# Altium integrated library Linear Technology Power Management Switching Regulator LT1074-LT8705.IntLib: 2252 symbols (part 135 of 148)
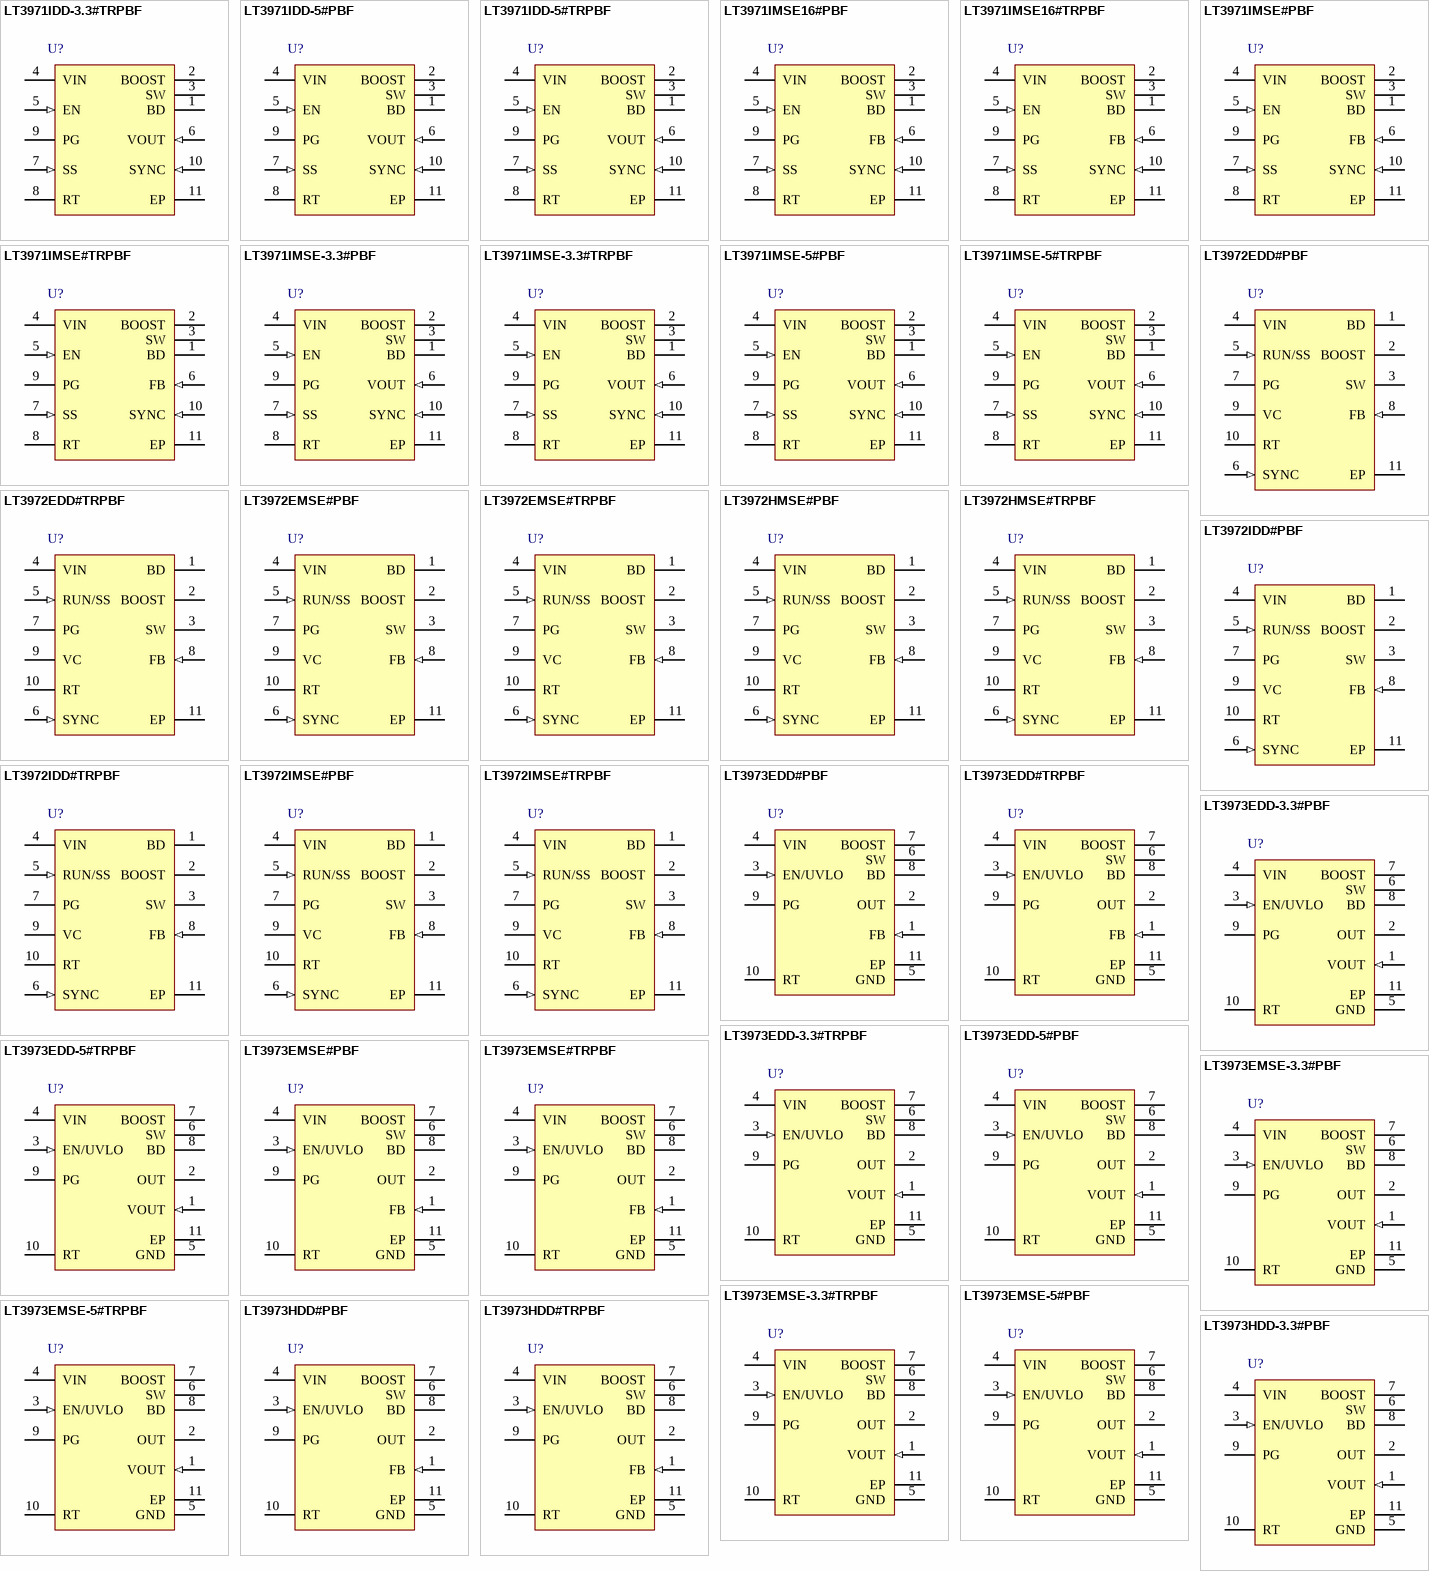
[diagram p205: symbols LT3971IDD-3.3#TRPBF to LT3973HDD-3.3#PBF]

## LT3973HDD-3.3#PBF
designator U?
750 mA Step-Down Regulator with 2.5 uA Quiescent Current and Integrated Diodes, 10-pin SON (DD-10), -40 to 150 degC, Pb-Free; Manufacturer: Linear Technology; PartNumber: LT3973HDD-3.3#PBF; Frequency Adjust Range: 200kHz - 2.2MHz; Number of Outputs: 1; DatasheetVersion: Rev. A; PackageVersion: Rev. C, 06/2010; PackageReference: DD-10; PackageDescription: 10-Pin Plastic DFN, Body 3 x 3 mm, Pitch 0.5 mm; Supplier 1: Digi-Key; Supplier Part Number 1: LT3973HDD-3.3#PBF-ND; Supplier 2: Newark; Supplier Part Number 2: 94T2273; RoHS: TRUE; Mounting Technology: Surface Mount; Code_JEDEC: MO-229; ComponentLink1Description: Manufacturer URL; ComponentLink1URL: http://www.linear.com/; ComponentLink2Description: Datasheet; ComponentLink2URL: http://cds.linear.com/docs/en/datasheet/3973fa.pdf; ComponentLink3Description: Package Specification; ComponentLink3URL: http://cds.linear.com/docs/en/packaging/DFN_10_05-08-1699.pdf
footprint LT-DD-10_V (SON, 10-Leads, Body 3x3mm, Pitch 0.5mm, Thermal Pad 2.38x1.65mm)
pins: 1 VOUT (in) "The  LT3973-3.3 and LT3973-5 regulate the VOUT pin to 3.3V  and 5V, respectively. This pin connects to the internal feedback divider that programs the fixed output voltage.", 2 OUT (power) "The LT3973 regulates the VIN to VOUT voltage for dropout conditions. It will also pull current from this pin to charge the boost capacitor when needed. Connect this pin to the output. If programmed output is greater than (See Datasheet)", 3 EN/UVLO (in) "The part is in shutdown when this pin is low and active when this pin is high. The threshold voltage is 1.19V going up with 30mV of hysteresis. Tie to VIN if shutdown feature is not used. The EN/UVLO threshold is accurate (See Datasheet)", 4 VIN (power) "The VIN pin supplies current to the LT3973's  internal circuitry and to the internal power switch. This pin must be locally bypassed.", 5 GND (power) "Ground. The exposed pad must be soldered to the PCB.", 6 SW (power) "The SW pin is the output of an internal power switch. Connect this pin to the inductor.", 7 BOOST "This pin is used to provide a drive voltage, higher than the input voltage, to the internal bipolar NPN power switch.", 8 BD (power) "This pin connects to the anode of the boost diode. This pin also supplies current to the LT3973's internal  regulator when BD is above 3.2V.", 9 PG (oc) "The PG pin is the open-drain output of an internal comparator. PG remains low until the FB pin is within 10% of the final regulation voltage. PG is valid when VIN is above 4.2V and EN/UVLO is high.", 10 RT "A resistor is tied between RT and ground to set the switching frequency.", 11 EP (power) "Ground. The exposed pad must be soldered to the PCB."

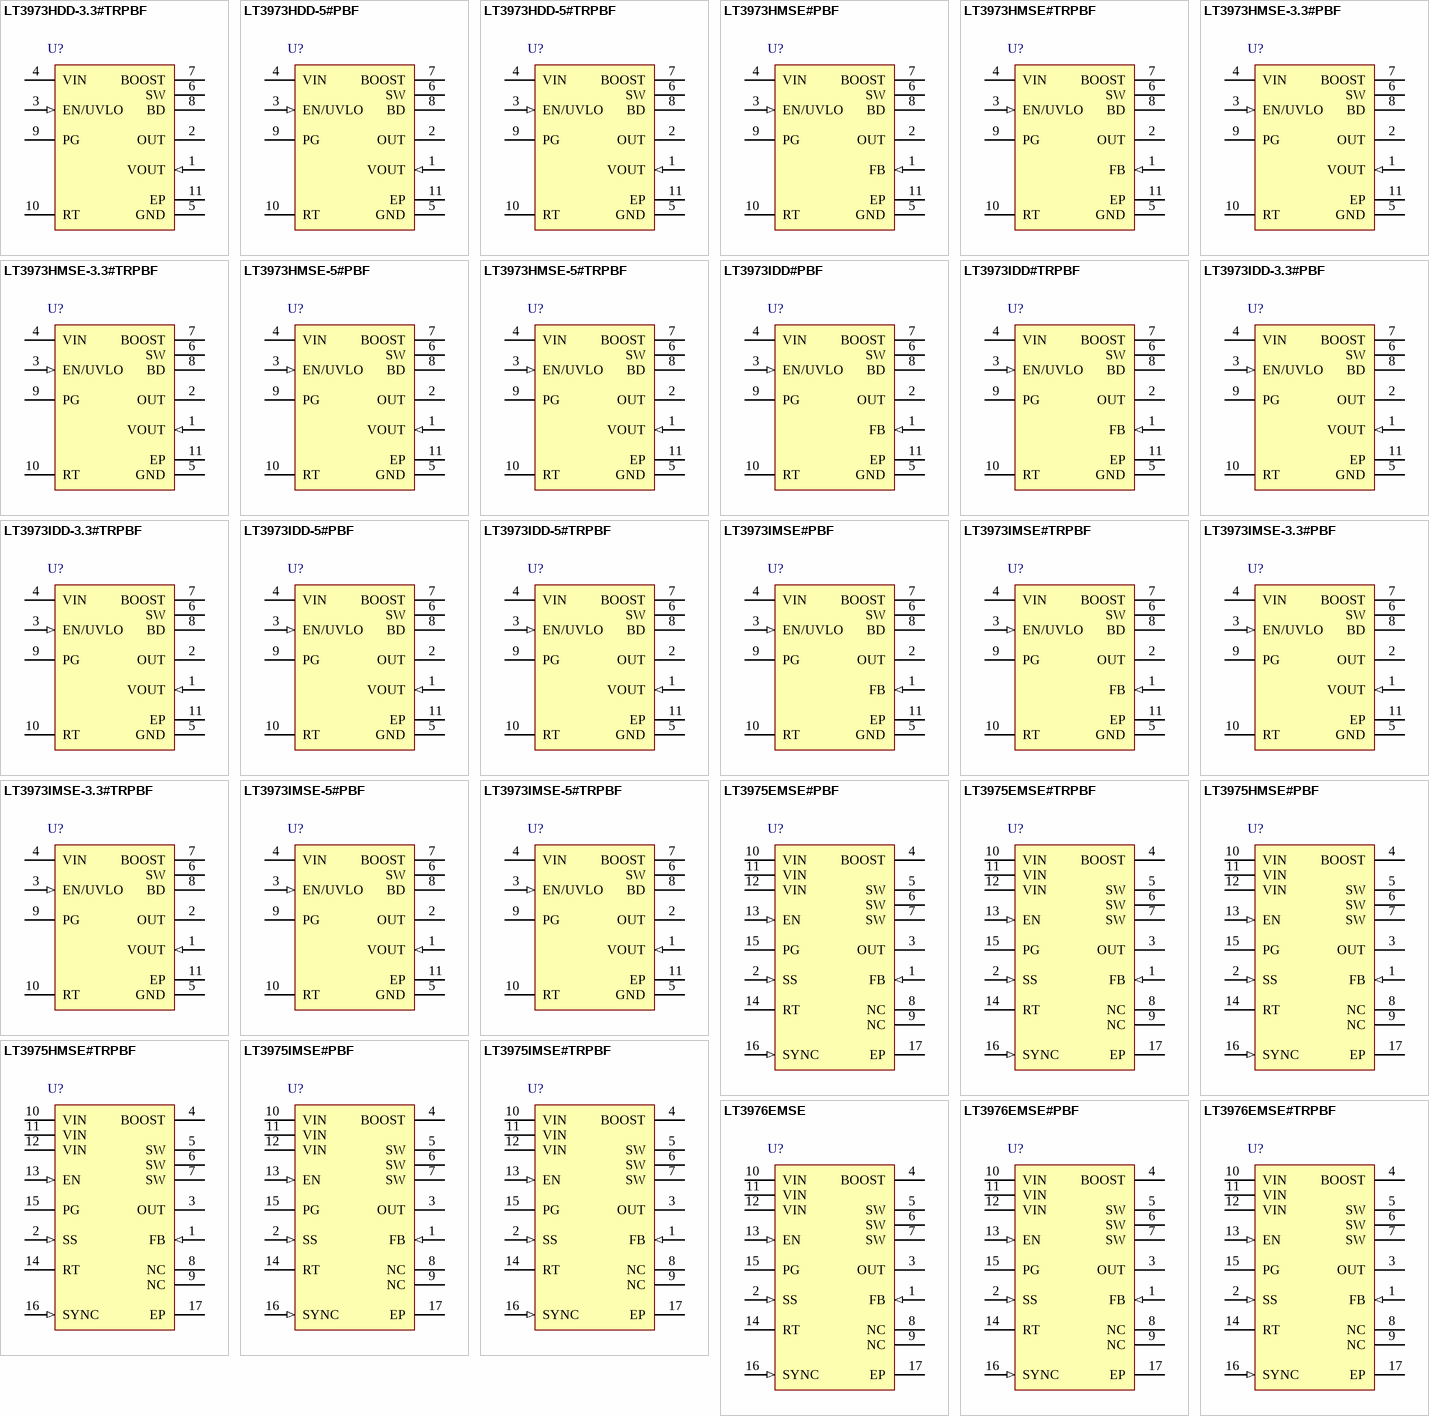
[diagram p65: symbols LT3973HDD-3.3#TRPBF to LT3976EMSE#TRPBF]

## LT3973HDD-3.3#TRPBF
designator U?
750 mA Step-Down Regulator with 2.5 uA Quiescent Current and Integrated Diodes, 10-pin SON (DD-10), -40 to 150 degC, Pb-Free, Tape and Reel; Manufacturer: Linear Technology; PartNumber: LT3973HDD-3.3#TRPBF; Frequency Adjust Range: 200kHz - 2.2MHz; Number of Outputs: 1; DatasheetVersion: Rev. A; PackageVersion: Rev. C, 06/2010; PackageReference: DD-10; PackageDescription: 10-Pin Plastic DFN, Body 3 x 3 mm, Pitch 0.5 mm; Supplier 1: Digi-Key; Supplier Part Number 1: LT3973HDD-3.3#TRPBF-ND; Packing: Tape and Reel; RoHS: TRUE; Mounting Technology: Surface Mount; Code_JEDEC: MO-229; ComponentLink1Description: Manufacturer URL; ComponentLink1URL: http://www.linear.com/; ComponentLink2Description: Datasheet; ComponentLink2URL: http://cds.linear.com/docs/en/datasheet/3973fa.pdf; ComponentLink3Description: Package Specification; ComponentLink3URL: http://cds.linear.com/docs/en/packaging/DFN_10_05-08-1699.pdf
footprint LT-DD-10_V (SON, 10-Leads, Body 3x3mm, Pitch 0.5mm, Thermal Pad 2.38x1.65mm)
pins: 1 VOUT (in) "The  LT3973-3.3 and LT3973-5 regulate the VOUT pin to 3.3V  and 5V, respectively. This pin connects to the internal feedback divider that programs the fixed output voltage.", 2 OUT (power) "The LT3973 regulates the VIN to VOUT voltage for dropout conditions. It will also pull current from this pin to charge the boost capacitor when needed. Connect this pin to the output. If programmed output is greater than (See Datasheet)", 3 EN/UVLO (in) "The part is in shutdown when this pin is low and active when this pin is high. The threshold voltage is 1.19V going up with 30mV of hysteresis. Tie to VIN if shutdown feature is not used. The EN/UVLO threshold is accurate (See Datasheet)", 4 VIN (power) "The VIN pin supplies current to the LT3973's  internal circuitry and to the internal power switch. This pin must be locally bypassed.", 5 GND (power) "Ground. The exposed pad must be soldered to the PCB.", 6 SW (power) "The SW pin is the output of an internal power switch. Connect this pin to the inductor.", 7 BOOST "This pin is used to provide a drive voltage, higher than the input voltage, to the internal bipolar NPN power switch.", 8 BD (power) "This pin connects to the anode of the boost diode. This pin also supplies current to the LT3973's internal  regulator when BD is above 3.2V.", 9 PG (oc) "The PG pin is the open-drain output of an internal comparator. PG remains low until the FB pin is within 10% of the final regulation voltage. PG is valid when VIN is above 4.2V and EN/UVLO is high.", 10 RT "A resistor is tied between RT and ground to set the switching frequency.", 11 EP (power) "Ground. The exposed pad must be soldered to the PCB."

## LT3973HDD-5#PBF
designator U?
750 mA Step-Down Regulator with 2.5 uA Quiescent Current and Integrated Diodes, 10-pin SON (DD-10), -40 to 150 degC, Pb-Free; Manufacturer: Linear Technology; PartNumber: LT3973HDD-5#PBF; Frequency Adjust Range: 200kHz - 2.2MHz; Number of Outputs: 1; DatasheetVersion: Rev. A; PackageVersion: Rev. C, 06/2010; PackageReference: DD-10; PackageDescription: 10-Pin Plastic DFN, Body 3 x 3 mm, Pitch 0.5 mm; Supplier 1: Digi-Key; Supplier Part Number 1: LT3973HDD-5#PBF-ND; Supplier 2: Newark; Supplier Part Number 2: 94T2275; RoHS: TRUE; Mounting Technology: Surface Mount; Code_JEDEC: MO-229; ComponentLink1Description: Manufacturer URL; ComponentLink1URL: http://www.linear.com/; ComponentLink2Description: Datasheet; ComponentLink2URL: http://cds.linear.com/docs/en/datasheet/3973fa.pdf; ComponentLink3Description: Package Specification; ComponentLink3URL: http://cds.linear.com/docs/en/packaging/DFN_10_05-08-1699.pdf
footprint LT-DD-10_V (SON, 10-Leads, Body 3x3mm, Pitch 0.5mm, Thermal Pad 2.38x1.65mm)
pins: 1 VOUT (in) "The  LT3973-3.3 and LT3973-5 regulate the VOUT pin to 3.3V  and 5V, respectively. This pin connects to the internal feedback divider that programs the fixed output voltage.", 2 OUT (power) "The LT3973 regulates the VIN to VOUT voltage for dropout conditions. It will also pull current from this pin to charge the boost capacitor when needed. Connect this pin to the output. If programmed output is greater than (See Datasheet)", 3 EN/UVLO (in) "The part is in shutdown when this pin is low and active when this pin is high. The threshold voltage is 1.19V going up with 30mV of hysteresis. Tie to VIN if shutdown feature is not used. The EN/UVLO threshold is accurate (See Datasheet)", 4 VIN (power) "The VIN pin supplies current to the LT3973's  internal circuitry and to the internal power switch. This pin must be locally bypassed.", 5 GND (power) "Ground. The exposed pad must be soldered to the PCB.", 6 SW (power) "The SW pin is the output of an internal power switch. Connect this pin to the inductor.", 7 BOOST "This pin is used to provide a drive voltage, higher than the input voltage, to the internal bipolar NPN power switch.", 8 BD (power) "This pin connects to the anode of the boost diode. This pin also supplies current to the LT3973's internal  regulator when BD is above 3.2V.", 9 PG (oc) "The PG pin is the open-drain output of an internal comparator. PG remains low until the FB pin is within 10% of the final regulation voltage. PG is valid when VIN is above 4.2V and EN/UVLO is high.", 10 RT "A resistor is tied between RT and ground to set the switching frequency.", 11 EP (power) "Ground. The exposed pad must be soldered to the PCB."

## LT3973HDD-5#TRPBF
designator U?
750 mA Step-Down Regulator with 2.5 uA Quiescent Current and Integrated Diodes, 10-pin SON (DD-10), -40 to 150 degC, Pb-Free, Tape and Reel; Manufacturer: Linear Technology; PartNumber: LT3973HDD-5#TRPBF; Frequency Adjust Range: 200kHz - 2.2MHz; Number of Outputs: 1; DatasheetVersion: Rev. A; PackageVersion: Rev. C, 06/2010; PackageReference: DD-10; PackageDescription: 10-Pin Plastic DFN, Body 3 x 3 mm, Pitch 0.5 mm; Supplier 1: Digi-Key; Supplier Part Number 1: LT3973HDD-5#TRPBF-ND; Packing: Tape and Reel; RoHS: TRUE; Mounting Technology: Surface Mount; Code_JEDEC: MO-229; ComponentLink1Description: Manufacturer URL; ComponentLink1URL: http://www.linear.com/; ComponentLink2Description: Datasheet; ComponentLink2URL: http://cds.linear.com/docs/en/datasheet/3973fa.pdf; ComponentLink3Description: Package Specification; ComponentLink3URL: http://cds.linear.com/docs/en/packaging/DFN_10_05-08-1699.pdf
footprint LT-DD-10_V (SON, 10-Leads, Body 3x3mm, Pitch 0.5mm, Thermal Pad 2.38x1.65mm)
pins: 1 VOUT (in) "The  LT3973-3.3 and LT3973-5 regulate the VOUT pin to 3.3V  and 5V, respectively. This pin connects to the internal feedback divider that programs the fixed output voltage.", 2 OUT (power) "The LT3973 regulates the VIN to VOUT voltage for dropout conditions. It will also pull current from this pin to charge the boost capacitor when needed. Connect this pin to the output. If programmed output is greater than (See Datasheet)", 3 EN/UVLO (in) "The part is in shutdown when this pin is low and active when this pin is high. The threshold voltage is 1.19V going up with 30mV of hysteresis. Tie to VIN if shutdown feature is not used. The EN/UVLO threshold is accurate (See Datasheet)", 4 VIN (power) "The VIN pin supplies current to the LT3973's  internal circuitry and to the internal power switch. This pin must be locally bypassed.", 5 GND (power) "Ground. The exposed pad must be soldered to the PCB.", 6 SW (power) "The SW pin is the output of an internal power switch. Connect this pin to the inductor.", 7 BOOST "This pin is used to provide a drive voltage, higher than the input voltage, to the internal bipolar NPN power switch.", 8 BD (power) "This pin connects to the anode of the boost diode. This pin also supplies current to the LT3973's internal  regulator when BD is above 3.2V.", 9 PG (oc) "The PG pin is the open-drain output of an internal comparator. PG remains low until the FB pin is within 10% of the final regulation voltage. PG is valid when VIN is above 4.2V and EN/UVLO is high.", 10 RT "A resistor is tied between RT and ground to set the switching frequency.", 11 EP (power) "Ground. The exposed pad must be soldered to the PCB."

## LT3973HMSE#PBF
designator U?
750 mA Step-Down Regulator with 2.5 uA Quiescent Current and Integrated Diodes, 10-pin SOP (MSE-10-EDP), -40 to 150 degC, Pb-Free; Manufacturer: Linear Technology; PartNumber: LT3973HMSE#PBF; Frequency Adjust Range: 200kHz - 2.2MHz; Number of Outputs: 1; DatasheetVersion: Rev. A; PackageVersion: Rev. I, 05/2013; PackageReference: MSE-10; PackageDescription: 10-Pin Plastic MSOP, Exposed Die Pad, Body 3 x 3 mm, Pitch 0.5 mm; Supplier 1: Digi-Key; Supplier Part Number 1: LT3973HMSE#PBF-ND; Supplier 2: Newark; Supplier Part Number 2: 78T4081; RoHS: TRUE; Mounting Technology: Surface Mount; ComponentLink1Description: Manufacturer URL; ComponentLink1URL: http://www.linear.com/; ComponentLink2Description: Datasheet; ComponentLink2URL: http://cds.linear.com/docs/en/datasheet/3973fa.pdf; ComponentLink3Description: Package Specification; ComponentLink3URL: http://cds.linear.com/docs/en/packaging/05081664_I_MSE.pdf
footprint LT-MSE-10-EDP_N (SOP, 10-Leads, Body 3.1x3.1mm, Pitch 0.5mm, Thermal Pad 1.88x1.68mm, IPC Medium Density)
footprint LT-MSE-10-EDP_L (SOP, 10-Leads, Body 3.1x3.1mm, Pitch 0.5mm, Thermal Pad 1.88x1.68mm, IPC High Density)
footprint LT-MSE-10-EDP_M (SOP, 10-Leads, Body 3.1x3.1mm, Pitch 0.5mm, Thermal Pad 1.88x1.68mm, IPC Low Density)
pins: 1 FB (in) "The LT3973 regulates the FB  pin to 1.21V. Connect the feedback resistor divider tap  to this pin.", 2 OUT (power) "The LT3973 regulates the VIN to VOUT voltage for dropout conditions. It will also pull current from this pin to charge the boost capacitor when needed. Connect this pin to the output. If programmed output is greater than (See Datasheet)", 3 EN/UVLO (in) "The part is in shutdown when this pin is low and active when this pin is high. The threshold voltage is 1.19V going up with 30mV of hysteresis. Tie to VIN if shutdown feature is not used. The EN/UVLO threshold is accurate (See Datasheet)", 4 VIN (power) "The VIN pin supplies current to the LT3973's  internal circuitry and to the internal power switch. This pin must be locally bypassed.", 5 GND (power) "Ground. The exposed pad must be soldered to the PCB.", 6 SW (power) "The SW pin is the output of an internal power switch. Connect this pin to the inductor.", 7 BOOST "This pin is used to provide a drive voltage, higher than the input voltage, to the internal bipolar NPN power switch.", 8 BD (power) "This pin connects to the anode of the boost diode. This pin also supplies current to the LT3973's internal  regulator when BD is above 3.2V.", 9 PG (oc) "The PG pin is the open-drain output of an internal comparator. PG remains low until the FB pin is within 10% of the final regulation voltage. PG is valid when VIN is above 4.2V and EN/UVLO is high.", 10 RT "A resistor is tied between RT and ground to set the switching frequency.", 11 EP (power) "Ground. The exposed pad must be soldered to the PCB."

## LT3973HMSE#TRPBF
designator U?
750 mA Step-Down Regulator with 2.5 uA Quiescent Current and Integrated Diodes, 10-pin SOP (MSE-10-EDP), -40 to 150 degC, Pb-Free, Tape and Reel; Manufacturer: Linear Technology; PartNumber: LT3973HMSE#TRPBF; Frequency Adjust Range: 200kHz - 2.2MHz; Number of Outputs: 1; DatasheetVersion: Rev. A; PackageVersion: Rev. I, 05/2013; PackageReference: MSE-10; PackageDescription: 10-Pin Plastic MSOP, Exposed Die Pad, Body 3 x 3 mm, Pitch 0.5 mm; Supplier 1: Digi-Key; Supplier Part Number 1: LT3973HMSE#TRPBF-ND; Packing: Tape and Reel; RoHS: TRUE; Mounting Technology: Surface Mount; ComponentLink1Description: Manufacturer URL; ComponentLink1URL: http://www.linear.com/; ComponentLink2Description: Datasheet; ComponentLink2URL: http://cds.linear.com/docs/en/datasheet/3973fa.pdf; ComponentLink3Description: Package Specification; ComponentLink3URL: http://cds.linear.com/docs/en/packaging/05081664_I_MSE.pdf
footprint LT-MSE-10-EDP_N (SOP, 10-Leads, Body 3.1x3.1mm, Pitch 0.5mm, Thermal Pad 1.88x1.68mm, IPC Medium Density)
footprint LT-MSE-10-EDP_L (SOP, 10-Leads, Body 3.1x3.1mm, Pitch 0.5mm, Thermal Pad 1.88x1.68mm, IPC High Density)
footprint LT-MSE-10-EDP_M (SOP, 10-Leads, Body 3.1x3.1mm, Pitch 0.5mm, Thermal Pad 1.88x1.68mm, IPC Low Density)
pins: 1 FB (in) "The LT3973 regulates the FB  pin to 1.21V. Connect the feedback resistor divider tap  to this pin.", 2 OUT (power) "The LT3973 regulates the VIN to VOUT voltage for dropout conditions. It will also pull current from this pin to charge the boost capacitor when needed. Connect this pin to the output. If programmed output is greater than (See Datasheet)", 3 EN/UVLO (in) "The part is in shutdown when this pin is low and active when this pin is high. The threshold voltage is 1.19V going up with 30mV of hysteresis. Tie to VIN if shutdown feature is not used. The EN/UVLO threshold is accurate (See Datasheet)", 4 VIN (power) "The VIN pin supplies current to the LT3973's  internal circuitry and to the internal power switch. This pin must be locally bypassed.", 5 GND (power) "Ground. The exposed pad must be soldered to the PCB.", 6 SW (power) "The SW pin is the output of an internal power switch. Connect this pin to the inductor.", 7 BOOST "This pin is used to provide a drive voltage, higher than the input voltage, to the internal bipolar NPN power switch.", 8 BD (power) "This pin connects to the anode of the boost diode. This pin also supplies current to the LT3973's internal  regulator when BD is above 3.2V.", 9 PG (oc) "The PG pin is the open-drain output of an internal comparator. PG remains low until the FB pin is within 10% of the final regulation voltage. PG is valid when VIN is above 4.2V and EN/UVLO is high.", 10 RT "A resistor is tied between RT and ground to set the switching frequency.", 11 EP (power) "Ground. The exposed pad must be soldered to the PCB."

## LT3973HMSE-3.3#PBF
designator U?
750 mA Step-Down Regulator with 2.5 uA Quiescent Current and Integrated Diodes, 10-pin SOP (MSE-10-EDP), -40 to 150 degC, Pb-Free; Manufacturer: Linear Technology; PartNumber: LT3973HMSE-3.3#PBF; Frequency Adjust Range: 200kHz - 2.2MHz; Number of Outputs: 1; DatasheetVersion: Rev. A; PackageVersion: Rev. I, 05/2013; PackageReference: MSE-10; PackageDescription: 10-Pin Plastic MSOP, Exposed Die Pad, Body 3 x 3 mm, Pitch 0.5 mm; Supplier 1: Digi-Key; Supplier Part Number 1: LT3973HMSE-3.3#PBF-ND; RoHS: TRUE; Mounting Technology: Surface Mount; ComponentLink1Description: Manufacturer URL; ComponentLink1URL: http://www.linear.com/; ComponentLink2Description: Datasheet; ComponentLink2URL: http://cds.linear.com/docs/en/datasheet/3973fa.pdf; ComponentLink3Description: Package Specification; ComponentLink3URL: http://cds.linear.com/docs/en/packaging/05081664_I_MSE.pdf
footprint LT-MSE-10-EDP_N (SOP, 10-Leads, Body 3.1x3.1mm, Pitch 0.5mm, Thermal Pad 1.88x1.68mm, IPC Medium Density)
footprint LT-MSE-10-EDP_L (SOP, 10-Leads, Body 3.1x3.1mm, Pitch 0.5mm, Thermal Pad 1.88x1.68mm, IPC High Density)
footprint LT-MSE-10-EDP_M (SOP, 10-Leads, Body 3.1x3.1mm, Pitch 0.5mm, Thermal Pad 1.88x1.68mm, IPC Low Density)
pins: 1 VOUT (in) "The  LT3973-3.3 and LT3973-5 regulate the VOUT pin to 3.3V  and 5V, respectively. This pin connects to the internal feedback divider that programs the fixed output voltage.", 2 OUT (power) "The LT3973 regulates the VIN to VOUT voltage for dropout conditions. It will also pull current from this pin to charge the boost capacitor when needed. Connect this pin to the output. If programmed output is greater than (See Datasheet)", 3 EN/UVLO (in) "The part is in shutdown when this pin is low and active when this pin is high. The threshold voltage is 1.19V going up with 30mV of hysteresis. Tie to VIN if shutdown feature is not used. The EN/UVLO threshold is accurate (See Datasheet)", 4 VIN (power) "The VIN pin supplies current to the LT3973's  internal circuitry and to the internal power switch. This pin must be locally bypassed.", 5 GND (power) "Ground. The exposed pad must be soldered to the PCB.", 6 SW (power) "The SW pin is the output of an internal power switch. Connect this pin to the inductor.", 7 BOOST "This pin is used to provide a drive voltage, higher than the input voltage, to the internal bipolar NPN power switch.", 8 BD (power) "This pin connects to the anode of the boost diode. This pin also supplies current to the LT3973's internal  regulator when BD is above 3.2V.", 9 PG (oc) "The PG pin is the open-drain output of an internal comparator. PG remains low until the FB pin is within 10% of the final regulation voltage. PG is valid when VIN is above 4.2V and EN/UVLO is high.", 10 RT "A resistor is tied between RT and ground to set the switching frequency.", 11 EP (power) "Ground. The exposed pad must be soldered to the PCB."

## LT3973HMSE-3.3#TRPBF
designator U?
750 mA Step-Down Regulator with 2.5 uA Quiescent Current and Integrated Diodes, 10-pin SOP (MSE-10-EDP), -40 to 150 degC, Pb-Free, Tape and Reel; Manufacturer: Linear Technology; PartNumber: LT3973HMSE-3.3#TRPBF; Frequency Adjust Range: 200kHz - 2.2MHz; Number of Outputs: 1; DatasheetVersion: Rev. A; PackageVersion: Rev. I, 05/2013; PackageReference: MSE-10; PackageDescription: 10-Pin Plastic MSOP, Exposed Die Pad, Body 3 x 3 mm, Pitch 0.5 mm; Supplier 1: Digi-Key; Supplier Part Number 1: LT3973HMSE-3.3#TRPBF-ND; Packing: Tape and Reel; RoHS: TRUE; Mounting Technology: Surface Mount; ComponentLink1Description: Manufacturer URL; ComponentLink1URL: http://www.linear.com/; ComponentLink2Description: Datasheet; ComponentLink2URL: http://cds.linear.com/docs/en/datasheet/3973fa.pdf; ComponentLink3Description: Package Specification; ComponentLink3URL: http://cds.linear.com/docs/en/packaging/05081664_I_MSE.pdf
footprint LT-MSE-10-EDP_N (SOP, 10-Leads, Body 3.1x3.1mm, Pitch 0.5mm, Thermal Pad 1.88x1.68mm, IPC Medium Density)
footprint LT-MSE-10-EDP_L (SOP, 10-Leads, Body 3.1x3.1mm, Pitch 0.5mm, Thermal Pad 1.88x1.68mm, IPC High Density)
footprint LT-MSE-10-EDP_M (SOP, 10-Leads, Body 3.1x3.1mm, Pitch 0.5mm, Thermal Pad 1.88x1.68mm, IPC Low Density)
pins: 1 VOUT (in) "The  LT3973-3.3 and LT3973-5 regulate the VOUT pin to 3.3V  and 5V, respectively. This pin connects to the internal feedback divider that programs the fixed output voltage.", 2 OUT (power) "The LT3973 regulates the VIN to VOUT voltage for dropout conditions. It will also pull current from this pin to charge the boost capacitor when needed. Connect this pin to the output. If programmed output is greater than (See Datasheet)", 3 EN/UVLO (in) "The part is in shutdown when this pin is low and active when this pin is high. The threshold voltage is 1.19V going up with 30mV of hysteresis. Tie to VIN if shutdown feature is not used. The EN/UVLO threshold is accurate (See Datasheet)", 4 VIN (power) "The VIN pin supplies current to the LT3973's  internal circuitry and to the internal power switch. This pin must be locally bypassed.", 5 GND (power) "Ground. The exposed pad must be soldered to the PCB.", 6 SW (power) "The SW pin is the output of an internal power switch. Connect this pin to the inductor.", 7 BOOST "This pin is used to provide a drive voltage, higher than the input voltage, to the internal bipolar NPN power switch.", 8 BD (power) "This pin connects to the anode of the boost diode. This pin also supplies current to the LT3973's internal  regulator when BD is above 3.2V.", 9 PG (oc) "The PG pin is the open-drain output of an internal comparator. PG remains low until the FB pin is within 10% of the final regulation voltage. PG is valid when VIN is above 4.2V and EN/UVLO is high.", 10 RT "A resistor is tied between RT and ground to set the switching frequency.", 11 EP (power) "Ground. The exposed pad must be soldered to the PCB."

## LT3973HMSE-5#PBF
designator U?
750 mA Step-Down Regulator with 2.5 uA Quiescent Current and Integrated Diodes, 10-pin SOP (MSE-10-EDP), -40 to 150 degC, Pb-Free; Manufacturer: Linear Technology; PartNumber: LT3973HMSE-5#PBF; Frequency Adjust Range: 200kHz - 2.2MHz; Number of Outputs: 1; DatasheetVersion: Rev. A; PackageVersion: Rev. I, 05/2013; PackageReference: MSE-10; PackageDescription: 10-Pin Plastic MSOP, Exposed Die Pad, Body 3 x 3 mm, Pitch 0.5 mm; Supplier 1: Digi-Key; Supplier Part Number 1: LT3973HMSE-5#PBF-ND; RoHS: TRUE; Mounting Technology: Surface Mount; ComponentLink1Description: Manufacturer URL; ComponentLink1URL: http://www.linear.com/; ComponentLink2Description: Datasheet; ComponentLink2URL: http://cds.linear.com/docs/en/datasheet/3973fa.pdf; ComponentLink3Description: Package Specification; ComponentLink3URL: http://cds.linear.com/docs/en/packaging/05081664_I_MSE.pdf
footprint LT-MSE-10-EDP_N (SOP, 10-Leads, Body 3.1x3.1mm, Pitch 0.5mm, Thermal Pad 1.88x1.68mm, IPC Medium Density)
footprint LT-MSE-10-EDP_L (SOP, 10-Leads, Body 3.1x3.1mm, Pitch 0.5mm, Thermal Pad 1.88x1.68mm, IPC High Density)
footprint LT-MSE-10-EDP_M (SOP, 10-Leads, Body 3.1x3.1mm, Pitch 0.5mm, Thermal Pad 1.88x1.68mm, IPC Low Density)
pins: 1 VOUT (in) "The  LT3973-3.3 and LT3973-5 regulate the VOUT pin to 3.3V  and 5V, respectively. This pin connects to the internal feedback divider that programs the fixed output voltage.", 2 OUT (power) "The LT3973 regulates the VIN to VOUT voltage for dropout conditions. It will also pull current from this pin to charge the boost capacitor when needed. Connect this pin to the output. If programmed output is greater than (See Datasheet)", 3 EN/UVLO (in) "The part is in shutdown when this pin is low and active when this pin is high. The threshold voltage is 1.19V going up with 30mV of hysteresis. Tie to VIN if shutdown feature is not used. The EN/UVLO threshold is accurate (See Datasheet)", 4 VIN (power) "The VIN pin supplies current to the LT3973's  internal circuitry and to the internal power switch. This pin must be locally bypassed.", 5 GND (power) "Ground. The exposed pad must be soldered to the PCB.", 6 SW (power) "The SW pin is the output of an internal power switch. Connect this pin to the inductor.", 7 BOOST "This pin is used to provide a drive voltage, higher than the input voltage, to the internal bipolar NPN power switch.", 8 BD (power) "This pin connects to the anode of the boost diode. This pin also supplies current to the LT3973's internal  regulator when BD is above 3.2V.", 9 PG (oc) "The PG pin is the open-drain output of an internal comparator. PG remains low until the FB pin is within 10% of the final regulation voltage. PG is valid when VIN is above 4.2V and EN/UVLO is high.", 10 RT "A resistor is tied between RT and ground to set the switching frequency.", 11 EP (power) "Ground. The exposed pad must be soldered to the PCB."

## LT3973HMSE-5#TRPBF
designator U?
750 mA Step-Down Regulator with 2.5 uA Quiescent Current and Integrated Diodes, 10-pin SOP (MSE-10-EDP), -40 to 150 degC, Pb-Free, Tape and Reel; Manufacturer: Linear Technology; PartNumber: LT3973HMSE-5#TRPBF; Frequency Adjust Range: 200kHz - 2.2MHz; Number of Outputs: 1; DatasheetVersion: Rev. A; PackageVersion: Rev. I, 05/2013; PackageReference: MSE-10; PackageDescription: 10-Pin Plastic MSOP, Exposed Die Pad, Body 3 x 3 mm, Pitch 0.5 mm; Supplier 1: Digi-Key; Supplier Part Number 1: LT3973HMSE-5#TRPBF-ND; Supplier 2: Newark; Supplier Part Number 2: 94T2280; Packing: Tape and Reel; RoHS: TRUE; Mounting Technology: Surface Mount; ComponentLink1Description: Manufacturer URL; ComponentLink1URL: http://www.linear.com/; ComponentLink2Description: Datasheet; ComponentLink2URL: http://cds.linear.com/docs/en/datasheet/3973fa.pdf; ComponentLink3Description: Package Specification; ComponentLink3URL: http://cds.linear.com/docs/en/packaging/05081664_I_MSE.pdf
footprint LT-MSE-10-EDP_N (SOP, 10-Leads, Body 3.1x3.1mm, Pitch 0.5mm, Thermal Pad 1.88x1.68mm, IPC Medium Density)
footprint LT-MSE-10-EDP_L (SOP, 10-Leads, Body 3.1x3.1mm, Pitch 0.5mm, Thermal Pad 1.88x1.68mm, IPC High Density)
footprint LT-MSE-10-EDP_M (SOP, 10-Leads, Body 3.1x3.1mm, Pitch 0.5mm, Thermal Pad 1.88x1.68mm, IPC Low Density)
pins: 1 VOUT (in) "The  LT3973-3.3 and LT3973-5 regulate the VOUT pin to 3.3V  and 5V, respectively. This pin connects to the internal feedback divider that programs the fixed output voltage.", 2 OUT (power) "The LT3973 regulates the VIN to VOUT voltage for dropout conditions. It will also pull current from this pin to charge the boost capacitor when needed. Connect this pin to the output. If programmed output is greater than (See Datasheet)", 3 EN/UVLO (in) "The part is in shutdown when this pin is low and active when this pin is high. The threshold voltage is 1.19V going up with 30mV of hysteresis. Tie to VIN if shutdown feature is not used. The EN/UVLO threshold is accurate (See Datasheet)", 4 VIN (power) "The VIN pin supplies current to the LT3973's  internal circuitry and to the internal power switch. This pin must be locally bypassed.", 5 GND (power) "Ground. The exposed pad must be soldered to the PCB.", 6 SW (power) "The SW pin is the output of an internal power switch. Connect this pin to the inductor.", 7 BOOST "This pin is used to provide a drive voltage, higher than the input voltage, to the internal bipolar NPN power switch.", 8 BD (power) "This pin connects to the anode of the boost diode. This pin also supplies current to the LT3973's internal  regulator when BD is above 3.2V.", 9 PG (oc) "The PG pin is the open-drain output of an internal comparator. PG remains low until the FB pin is within 10% of the final regulation voltage. PG is valid when VIN is above 4.2V and EN/UVLO is high.", 10 RT "A resistor is tied between RT and ground to set the switching frequency.", 11 EP (power) "Ground. The exposed pad must be soldered to the PCB."

## LT3973IDD#PBF
designator U?
750 mA Step-Down Regulator with 2.5 uA Quiescent Current and Integrated Diodes, 10-pin SON (DD-10), -40 to 125 degC, Pb-Free; Manufacturer: Linear Technology; PartNumber: LT3973IDD#PBF; Frequency Adjust Range: 200kHz - 2.2MHz; Number of Outputs: 1; DatasheetVersion: Rev. A; PackageVersion: Rev. C, 06/2010; PackageReference: DD-10; PackageDescription: 10-Pin Plastic DFN, Body 3 x 3 mm, Pitch 0.5 mm; Supplier 1: Digi-Key; Supplier Part Number 1: LT3973IDD#PBF-ND; Supplier 2: Newark; Supplier Part Number 2: 78T4083; RoHS: TRUE; Mounting Technology: Surface Mount; Code_JEDEC: MO-229; ComponentLink1Description: Manufacturer URL; ComponentLink1URL: http://www.linear.com/; ComponentLink2Description: Datasheet; ComponentLink2URL: http://cds.linear.com/docs/en/datasheet/3973fa.pdf; ComponentLink3Description: Package Specification; ComponentLink3URL: http://cds.linear.com/docs/en/packaging/DFN_10_05-08-1699.pdf
footprint LT-DD-10_V (SON, 10-Leads, Body 3x3mm, Pitch 0.5mm, Thermal Pad 2.38x1.65mm)
pins: 1 FB (in) "The LT3973 regulates the FB  pin to 1.21V. Connect the feedback resistor divider tap  to this pin.", 2 OUT (power) "The LT3973 regulates the VIN to VOUT voltage for dropout conditions. It will also pull current from this pin to charge the boost capacitor when needed. Connect this pin to the output. If programmed output is greater than (See Datasheet)", 3 EN/UVLO (in) "The part is in shutdown when this pin is low and active when this pin is high. The threshold voltage is 1.19V going up with 30mV of hysteresis. Tie to VIN if shutdown feature is not used. The EN/UVLO threshold is accurate (See Datasheet)", 4 VIN (power) "The VIN pin supplies current to the LT3973's  internal circuitry and to the internal power switch. This pin must be locally bypassed.", 5 GND (power) "Ground. The exposed pad must be soldered to the PCB.", 6 SW (power) "The SW pin is the output of an internal power switch. Connect this pin to the inductor.", 7 BOOST "This pin is used to provide a drive voltage, higher than the input voltage, to the internal bipolar NPN power switch.", 8 BD (power) "This pin connects to the anode of the boost diode. This pin also supplies current to the LT3973's internal  regulator when BD is above 3.2V.", 9 PG (oc) "The PG pin is the open-drain output of an internal comparator. PG remains low until the FB pin is within 10% of the final regulation voltage. PG is valid when VIN is above 4.2V and EN/UVLO is high.", 10 RT "A resistor is tied between RT and ground to set the switching frequency.", 11 EP (power) "Ground. The exposed pad must be soldered to the PCB."

## LT3973IDD#TRPBF
designator U?
750 mA Step-Down Regulator with 2.5 uA Quiescent Current and Integrated Diodes, 10-pin SON (DD-10), -40 to 125 degC, Pb-Free, Tape and Reel; Manufacturer: Linear Technology; PartNumber: LT3973IDD#TRPBF; Frequency Adjust Range: 200kHz - 2.2MHz; Number of Outputs: 1; DatasheetVersion: Rev. A; PackageVersion: Rev. C, 06/2010; PackageReference: DD-10; PackageDescription: 10-Pin Plastic DFN, Body 3 x 3 mm, Pitch 0.5 mm; Supplier 1: Digi-Key; Supplier Part Number 1: LT3973IDD#TRPBF-ND; Packing: Tape and Reel; RoHS: TRUE; Mounting Technology: Surface Mount; Code_JEDEC: MO-229; ComponentLink1Description: Manufacturer URL; ComponentLink1URL: http://www.linear.com/; ComponentLink2Description: Datasheet; ComponentLink2URL: http://cds.linear.com/docs/en/datasheet/3973fa.pdf; ComponentLink3Description: Package Specification; ComponentLink3URL: http://cds.linear.com/docs/en/packaging/DFN_10_05-08-1699.pdf
footprint LT-DD-10_V (SON, 10-Leads, Body 3x3mm, Pitch 0.5mm, Thermal Pad 2.38x1.65mm)
pins: 1 FB (in) "The LT3973 regulates the FB  pin to 1.21V. Connect the feedback resistor divider tap  to this pin.", 2 OUT (power) "The LT3973 regulates the VIN to VOUT voltage for dropout conditions. It will also pull current from this pin to charge the boost capacitor when needed. Connect this pin to the output. If programmed output is greater than (See Datasheet)", 3 EN/UVLO (in) "The part is in shutdown when this pin is low and active when this pin is high. The threshold voltage is 1.19V going up with 30mV of hysteresis. Tie to VIN if shutdown feature is not used. The EN/UVLO threshold is accurate (See Datasheet)", 4 VIN (power) "The VIN pin supplies current to the LT3973's  internal circuitry and to the internal power switch. This pin must be locally bypassed.", 5 GND (power) "Ground. The exposed pad must be soldered to the PCB.", 6 SW (power) "The SW pin is the output of an internal power switch. Connect this pin to the inductor.", 7 BOOST "This pin is used to provide a drive voltage, higher than the input voltage, to the internal bipolar NPN power switch.", 8 BD (power) "This pin connects to the anode of the boost diode. This pin also supplies current to the LT3973's internal  regulator when BD is above 3.2V.", 9 PG (oc) "The PG pin is the open-drain output of an internal comparator. PG remains low until the FB pin is within 10% of the final regulation voltage. PG is valid when VIN is above 4.2V and EN/UVLO is high.", 10 RT "A resistor is tied between RT and ground to set the switching frequency.", 11 EP (power) "Ground. The exposed pad must be soldered to the PCB."

## LT3973IDD-3.3#PBF
designator U?
750 mA Step-Down Regulator with 2.5 uA Quiescent Current and Integrated Diodes, 10-pin SON (DD-10), -40 to 125 degC, Pb-Free; Manufacturer: Linear Technology; PartNumber: LT3973IDD-3.3#PBF; Frequency Adjust Range: 200kHz - 2.2MHz; Number of Outputs: 1; DatasheetVersion: Rev. A; PackageVersion: Rev. C, 06/2010; PackageReference: DD-10; PackageDescription: 10-Pin Plastic DFN, Body 3 x 3 mm, Pitch 0.5 mm; Supplier 1: Digi-Key; Supplier Part Number 1: LT3973IDD-3.3#PBF-ND; Supplier 2: Farnell; Supplier Part Number 2: 2115833; RoHS: TRUE; Mounting Technology: Surface Mount; Code_JEDEC: MO-229; ComponentLink1Description: Manufacturer URL; ComponentLink1URL: http://www.linear.com/; ComponentLink2Description: Datasheet; ComponentLink2URL: http://cds.linear.com/docs/en/datasheet/3973fa.pdf; ComponentLink3Description: Package Specification; ComponentLink3URL: http://cds.linear.com/docs/en/packaging/DFN_10_05-08-1699.pdf
footprint LT-DD-10_V (SON, 10-Leads, Body 3x3mm, Pitch 0.5mm, Thermal Pad 2.38x1.65mm)
pins: 1 VOUT (in) "The  LT3973-3.3 and LT3973-5 regulate the VOUT pin to 3.3V  and 5V, respectively. This pin connects to the internal feedback divider that programs the fixed output voltage.", 2 OUT (power) "The LT3973 regulates the VIN to VOUT voltage for dropout conditions. It will also pull current from this pin to charge the boost capacitor when needed. Connect this pin to the output. If programmed output is greater than (See Datasheet)", 3 EN/UVLO (in) "The part is in shutdown when this pin is low and active when this pin is high. The threshold voltage is 1.19V going up with 30mV of hysteresis. Tie to VIN if shutdown feature is not used. The EN/UVLO threshold is accurate (See Datasheet)", 4 VIN (power) "The VIN pin supplies current to the LT3973's  internal circuitry and to the internal power switch. This pin must be locally bypassed.", 5 GND (power) "Ground. The exposed pad must be soldered to the PCB.", 6 SW (power) "The SW pin is the output of an internal power switch. Connect this pin to the inductor.", 7 BOOST "This pin is used to provide a drive voltage, higher than the input voltage, to the internal bipolar NPN power switch.", 8 BD (power) "This pin connects to the anode of the boost diode. This pin also supplies current to the LT3973's internal  regulator when BD is above 3.2V.", 9 PG (oc) "The PG pin is the open-drain output of an internal comparator. PG remains low until the FB pin is within 10% of the final regulation voltage. PG is valid when VIN is above 4.2V and EN/UVLO is high.", 10 RT "A resistor is tied between RT and ground to set the switching frequency.", 11 EP (power) "Ground. The exposed pad must be soldered to the PCB."

## LT3973IDD-3.3#TRPBF
designator U?
750 mA Step-Down Regulator with 2.5 uA Quiescent Current and Integrated Diodes, 10-pin SON (DD-10), -40 to 125 degC, Pb-Free, Tape and Reel; Manufacturer: Linear Technology; PartNumber: LT3973IDD-3.3#TRPBF; Frequency Adjust Range: 200kHz - 2.2MHz; Number of Outputs: 1; DatasheetVersion: Rev. A; PackageVersion: Rev. C, 06/2010; PackageReference: DD-10; PackageDescription: 10-Pin Plastic DFN, Body 3 x 3 mm, Pitch 0.5 mm; Supplier 1: Digi-Key; Supplier Part Number 1: LT3973IDD-3.3#TRPBF-ND; Packing: Tape and Reel; RoHS: TRUE; Mounting Technology: Surface Mount; Code_JEDEC: MO-229; ComponentLink1Description: Manufacturer URL; ComponentLink1URL: http://www.linear.com/; ComponentLink2Description: Datasheet; ComponentLink2URL: http://cds.linear.com/docs/en/datasheet/3973fa.pdf; ComponentLink3Description: Package Specification; ComponentLink3URL: http://cds.linear.com/docs/en/packaging/DFN_10_05-08-1699.pdf
footprint LT-DD-10_V (SON, 10-Leads, Body 3x3mm, Pitch 0.5mm, Thermal Pad 2.38x1.65mm)
pins: 1 VOUT (in) "The  LT3973-3.3 and LT3973-5 regulate the VOUT pin to 3.3V  and 5V, respectively. This pin connects to the internal feedback divider that programs the fixed output voltage.", 2 OUT (power) "The LT3973 regulates the VIN to VOUT voltage for dropout conditions. It will also pull current from this pin to charge the boost capacitor when needed. Connect this pin to the output. If programmed output is greater than (See Datasheet)", 3 EN/UVLO (in) "The part is in shutdown when this pin is low and active when this pin is high. The threshold voltage is 1.19V going up with 30mV of hysteresis. Tie to VIN if shutdown feature is not used. The EN/UVLO threshold is accurate (See Datasheet)", 4 VIN (power) "The VIN pin supplies current to the LT3973's  internal circuitry and to the internal power switch. This pin must be locally bypassed.", 5 GND (power) "Ground. The exposed pad must be soldered to the PCB.", 6 SW (power) "The SW pin is the output of an internal power switch. Connect this pin to the inductor.", 7 BOOST "This pin is used to provide a drive voltage, higher than the input voltage, to the internal bipolar NPN power switch.", 8 BD (power) "This pin connects to the anode of the boost diode. This pin also supplies current to the LT3973's internal  regulator when BD is above 3.2V.", 9 PG (oc) "The PG pin is the open-drain output of an internal comparator. PG remains low until the FB pin is within 10% of the final regulation voltage. PG is valid when VIN is above 4.2V and EN/UVLO is high.", 10 RT "A resistor is tied between RT and ground to set the switching frequency.", 11 EP (power) "Ground. The exposed pad must be soldered to the PCB."

## LT3973IDD-5#PBF
designator U?
750 mA Step-Down Regulator with 2.5 uA Quiescent Current and Integrated Diodes, 10-pin SON (DD-10), -40 to 125 degC, Pb-Free; Manufacturer: Linear Technology; PartNumber: LT3973IDD-5#PBF; Frequency Adjust Range: 200kHz - 2.2MHz; Number of Outputs: 1; DatasheetVersion: Rev. A; PackageVersion: Rev. C, 06/2010; PackageReference: DD-10; PackageDescription: 10-Pin Plastic DFN, Body 3 x 3 mm, Pitch 0.5 mm; Supplier 1: Digi-Key; Supplier Part Number 1: LT3973IDD-5#PBF-ND; Supplier 2: Farnell; Supplier Part Number 2: 2115834; RoHS: TRUE; Mounting Technology: Surface Mount; Code_JEDEC: MO-229; ComponentLink1Description: Manufacturer URL; ComponentLink1URL: http://www.linear.com/; ComponentLink2Description: Datasheet; ComponentLink2URL: http://cds.linear.com/docs/en/datasheet/3973fa.pdf; ComponentLink3Description: Package Specification; ComponentLink3URL: http://cds.linear.com/docs/en/packaging/DFN_10_05-08-1699.pdf
footprint LT-DD-10_V (SON, 10-Leads, Body 3x3mm, Pitch 0.5mm, Thermal Pad 2.38x1.65mm)
pins: 1 VOUT (in) "The  LT3973-3.3 and LT3973-5 regulate the VOUT pin to 3.3V  and 5V, respectively. This pin connects to the internal feedback divider that programs the fixed output voltage.", 2 OUT (power) "The LT3973 regulates the VIN to VOUT voltage for dropout conditions. It will also pull current from this pin to charge the boost capacitor when needed. Connect this pin to the output. If programmed output is greater than (See Datasheet)", 3 EN/UVLO (in) "The part is in shutdown when this pin is low and active when this pin is high. The threshold voltage is 1.19V going up with 30mV of hysteresis. Tie to VIN if shutdown feature is not used. The EN/UVLO threshold is accurate (See Datasheet)", 4 VIN (power) "The VIN pin supplies current to the LT3973's  internal circuitry and to the internal power switch. This pin must be locally bypassed.", 5 GND (power) "Ground. The exposed pad must be soldered to the PCB.", 6 SW (power) "The SW pin is the output of an internal power switch. Connect this pin to the inductor.", 7 BOOST "This pin is used to provide a drive voltage, higher than the input voltage, to the internal bipolar NPN power switch.", 8 BD (power) "This pin connects to the anode of the boost diode. This pin also supplies current to the LT3973's internal  regulator when BD is above 3.2V.", 9 PG (oc) "The PG pin is the open-drain output of an internal comparator. PG remains low until the FB pin is within 10% of the final regulation voltage. PG is valid when VIN is above 4.2V and EN/UVLO is high.", 10 RT "A resistor is tied between RT and ground to set the switching frequency.", 11 EP (power) "Ground. The exposed pad must be soldered to the PCB."

## LT3973IDD-5#TRPBF
designator U?
750 mA Step-Down Regulator with 2.5 uA Quiescent Current and Integrated Diodes, 10-pin SON (DD-10), -40 to 125 degC, Pb-Free, Tape and Reel; Manufacturer: Linear Technology; PartNumber: LT3973IDD-5#TRPBF; Frequency Adjust Range: 200kHz - 2.2MHz; Number of Outputs: 1; DatasheetVersion: Rev. A; PackageVersion: Rev. C, 06/2010; PackageReference: DD-10; PackageDescription: 10-Pin Plastic DFN, Body 3 x 3 mm, Pitch 0.5 mm; Supplier 1: Digi-Key; Supplier Part Number 1: LT3973IDD-5#TRPBF-ND; Packing: Tape and Reel; RoHS: TRUE; Mounting Technology: Surface Mount; Code_JEDEC: MO-229; ComponentLink1Description: Manufacturer URL; ComponentLink1URL: http://www.linear.com/; ComponentLink2Description: Datasheet; ComponentLink2URL: http://cds.linear.com/docs/en/datasheet/3973fa.pdf; ComponentLink3Description: Package Specification; ComponentLink3URL: http://cds.linear.com/docs/en/packaging/DFN_10_05-08-1699.pdf
footprint LT-DD-10_V (SON, 10-Leads, Body 3x3mm, Pitch 0.5mm, Thermal Pad 2.38x1.65mm)
pins: 1 VOUT (in) "The  LT3973-3.3 and LT3973-5 regulate the VOUT pin to 3.3V  and 5V, respectively. This pin connects to the internal feedback divider that programs the fixed output voltage.", 2 OUT (power) "The LT3973 regulates the VIN to VOUT voltage for dropout conditions. It will also pull current from this pin to charge the boost capacitor when needed. Connect this pin to the output. If programmed output is greater than (See Datasheet)", 3 EN/UVLO (in) "The part is in shutdown when this pin is low and active when this pin is high. The threshold voltage is 1.19V going up with 30mV of hysteresis. Tie to VIN if shutdown feature is not used. The EN/UVLO threshold is accurate (See Datasheet)", 4 VIN (power) "The VIN pin supplies current to the LT3973's  internal circuitry and to the internal power switch. This pin must be locally bypassed.", 5 GND (power) "Ground. The exposed pad must be soldered to the PCB.", 6 SW (power) "The SW pin is the output of an internal power switch. Connect this pin to the inductor.", 7 BOOST "This pin is used to provide a drive voltage, higher than the input voltage, to the internal bipolar NPN power switch.", 8 BD (power) "This pin connects to the anode of the boost diode. This pin also supplies current to the LT3973's internal  regulator when BD is above 3.2V.", 9 PG (oc) "The PG pin is the open-drain output of an internal comparator. PG remains low until the FB pin is within 10% of the final regulation voltage. PG is valid when VIN is above 4.2V and EN/UVLO is high.", 10 RT "A resistor is tied between RT and ground to set the switching frequency.", 11 EP (power) "Ground. The exposed pad must be soldered to the PCB."

## LT3973IMSE#PBF
designator U?
750 mA Step-Down Regulator with 2.5 uA Quiescent Current and Integrated Diodes, 10-pin SOP (MSE-10-EDP), -40 to 125 degC, Pb-Free; Manufacturer: Linear Technology; PartNumber: LT3973IMSE#PBF; Frequency Adjust Range: 200kHz - 2.2MHz; Number of Outputs: 1; DatasheetVersion: Rev. A; PackageVersion: Rev. I, 05/2013; PackageReference: MSE-10; PackageDescription: 10-Pin Plastic MSOP, Exposed Die Pad, Body 3 x 3 mm, Pitch 0.5 mm; Supplier 1: Digi-Key; Supplier Part Number 1: LT3973IMSE#PBF-ND; RoHS: TRUE; Mounting Technology: Surface Mount; ComponentLink1Description: Manufacturer URL; ComponentLink1URL: http://www.linear.com/; ComponentLink2Description: Datasheet; ComponentLink2URL: http://cds.linear.com/docs/en/datasheet/3973fa.pdf; ComponentLink3Description: Package Specification; ComponentLink3URL: http://cds.linear.com/docs/en/packaging/05081664_I_MSE.pdf
footprint LT-MSE-10-EDP_N (SOP, 10-Leads, Body 3.1x3.1mm, Pitch 0.5mm, Thermal Pad 1.88x1.68mm, IPC Medium Density)
footprint LT-MSE-10-EDP_L (SOP, 10-Leads, Body 3.1x3.1mm, Pitch 0.5mm, Thermal Pad 1.88x1.68mm, IPC High Density)
footprint LT-MSE-10-EDP_M (SOP, 10-Leads, Body 3.1x3.1mm, Pitch 0.5mm, Thermal Pad 1.88x1.68mm, IPC Low Density)
pins: 1 FB (in) "The LT3973 regulates the FB  pin to 1.21V. Connect the feedback resistor divider tap  to this pin.", 2 OUT (power) "The LT3973 regulates the VIN to VOUT voltage for dropout conditions. It will also pull current from this pin to charge the boost capacitor when needed. Connect this pin to the output. If programmed output is greater than (See Datasheet)", 3 EN/UVLO (in) "The part is in shutdown when this pin is low and active when this pin is high. The threshold voltage is 1.19V going up with 30mV of hysteresis. Tie to VIN if shutdown feature is not used. The EN/UVLO threshold is accurate (See Datasheet)", 4 VIN (power) "The VIN pin supplies current to the LT3973's  internal circuitry and to the internal power switch. This pin must be locally bypassed.", 5 GND (power) "Ground. The exposed pad must be soldered to the PCB.", 6 SW (power) "The SW pin is the output of an internal power switch. Connect this pin to the inductor.", 7 BOOST "This pin is used to provide a drive voltage, higher than the input voltage, to the internal bipolar NPN power switch.", 8 BD (power) "This pin connects to the anode of the boost diode. This pin also supplies current to the LT3973's internal  regulator when BD is above 3.2V.", 9 PG (oc) "The PG pin is the open-drain output of an internal comparator. PG remains low until the FB pin is within 10% of the final regulation voltage. PG is valid when VIN is above 4.2V and EN/UVLO is high.", 10 RT "A resistor is tied between RT and ground to set the switching frequency.", 11 EP (power) "Ground. The exposed pad must be soldered to the PCB."